# Altium schematic symbol library EMDC_LEDs.SchLib: 12 symbols
Pins are listed as number, name and electrical type; pins without a type are passive.

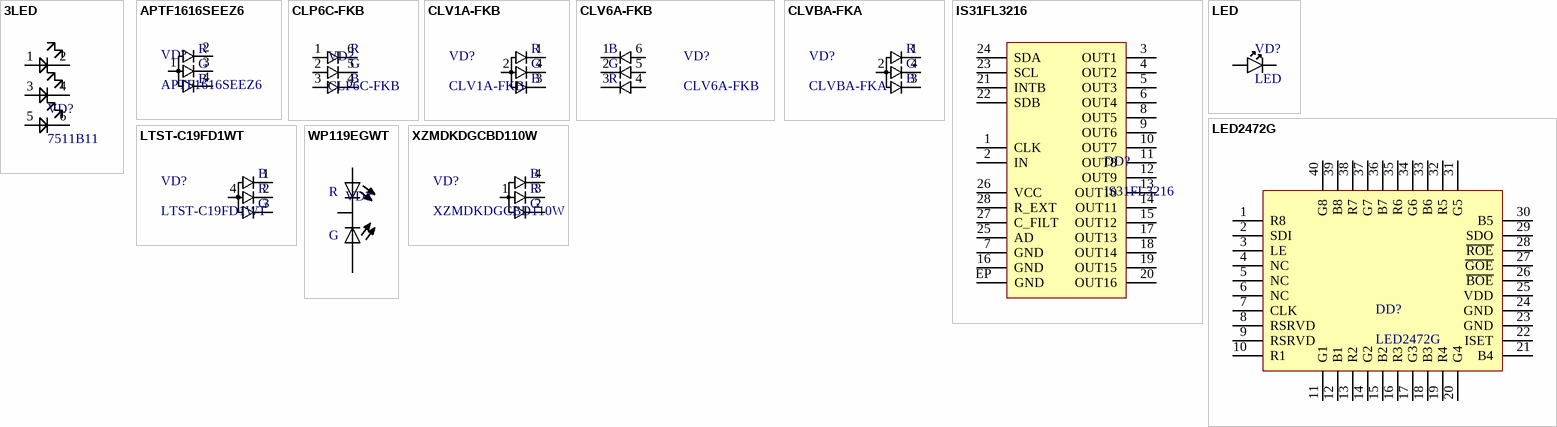
[diagram p0: symbols 3LED to XZMDKDGCBD110W]

## 3LED
designator VD?, comment 7511B11
3 LEDs with lightguide
footprint 3LED_Guide
pins: 1 A, 2 A, 3 A, 4 A, 5 A, 6 A

## APTF1616SEEZ6
designator VD?
RGB LED Kingbright APTF1616SEEZ6
footprint APTF1616SEEZ6 (RGB LED Kingbright APTF1616SEEZ6)
pins: 1, 2, 3, 4
text: R; G; B

## CLP6C-FKB
designator VD?
RGB LED Cree CLP6C-FKB
footprint CLP6C-FKB (RGB LED Cree CLP6C-FKB)
pins: 1, 2, 3, 4, 5, 6
text: R; G; B

## CLV1A-FKB
designator VD?
RGB LED Cree CLV1A-FKB
footprint CLV1A-FKB (RGB LED Cree CLV1A-FKB)
pins: 1, 2, 3, 4
text: R; G; B

## CLV6A-FKB
designator VD?
RGB LED Cree CLV6A-FKB
footprint CLV6A-FKB (RGB LED Cree)
pins: 1, 2, 3, 4, 5, 6
text: B; G; R

## CLVBA-FKA
designator VD?
RGB LED Cree CLVBA-FKA
footprint CLVBA-FKA (RGB LED Cree)
pins: 1, 2, 3, 4
text: R; G; B

## IS31FL3216
designator DD?
IS31FL3216 LED Driver
footprint QFN-28
pins: 1 CLK, 2 IN, 3 OUT1, 4 OUT2, 5 OUT3, 6 OUT4, 7 GND, 8 OUT5, 9 OUT6, 10 OUT7, 11 OUT8, 12 OUT9, 13 OUT10, 14 OUT11, 15 OUT12, 16 GND, 17 OUT13, 18 OUT14, 19 OUT15, 20 OUT16, 21 INTB, 22 SDB, 23 SCL, 24 SDA, 25 AD, 26 VCC, 27 C_FILT, 28 R_EXT, EP GND

## LED
designator VD?
LED SMD&DIP
footprint D0805
footprint D0805M
footprint D0402
footprint D0402M
footprint D0603
footprint D0603M
footprint D1206
footprint D1206M
pins: 1, 2

## LED2472G
designator DD?
LED2472G LED Driver
footprint MLPQ-40EP
pins: 1 R8, 2 SDI, 3 LE, 4 NC, 5 NC, 6 NC, 7 CLK, 8 RSRVD, 9 RSRVD, 10 R1, 11 G1, 12 B1, 13 R2, 14 G2, 15 B2, 16 R3, 17 G3, 18 B3, 19 R4, 20 G4, 21 B4, 22 ISET, 23 GND, 24 GND, 25 VDD, 26 ~{BOE}, 27 ~{GOE}, 28 ~{ROE}, 29 SDO, 30 B5, 31 G5, 32 R5, 33 B6, 34 G6, 35 R6, 36 B7, 37 G7, 38 R7, 39 B8, 40 G8

## LTST-C19FD1WT
designator VD?
RGB LED LiteOn TST-C19FD1WT
footprint LTST-C19FD1WT (RGB LED LightOn)
pins: 1, 2, 3, 4
text: B; R; G

## WP119EGWT
designator VD?  (value not drawn)
Red&Green LED WP119EGWT
footprint WP119EGWT (Two color LED)
pins: 1, 2, 3
text: R; G

## XZMDKDGCBD110W
designator VD?
RGB LED SunLED XZMDKDGCBD110W
footprint XZMDKDGCBD110W (RGB LED SunLED XZMDKDGCBD110W)
pins: 1, 2, 3, 4
text: B; R; G